# Altium schematic symbol library axleZ_dhs.SCHLIB: 21 symbols
Pins are listed as number, name and electrical type; pins without a type are passive.

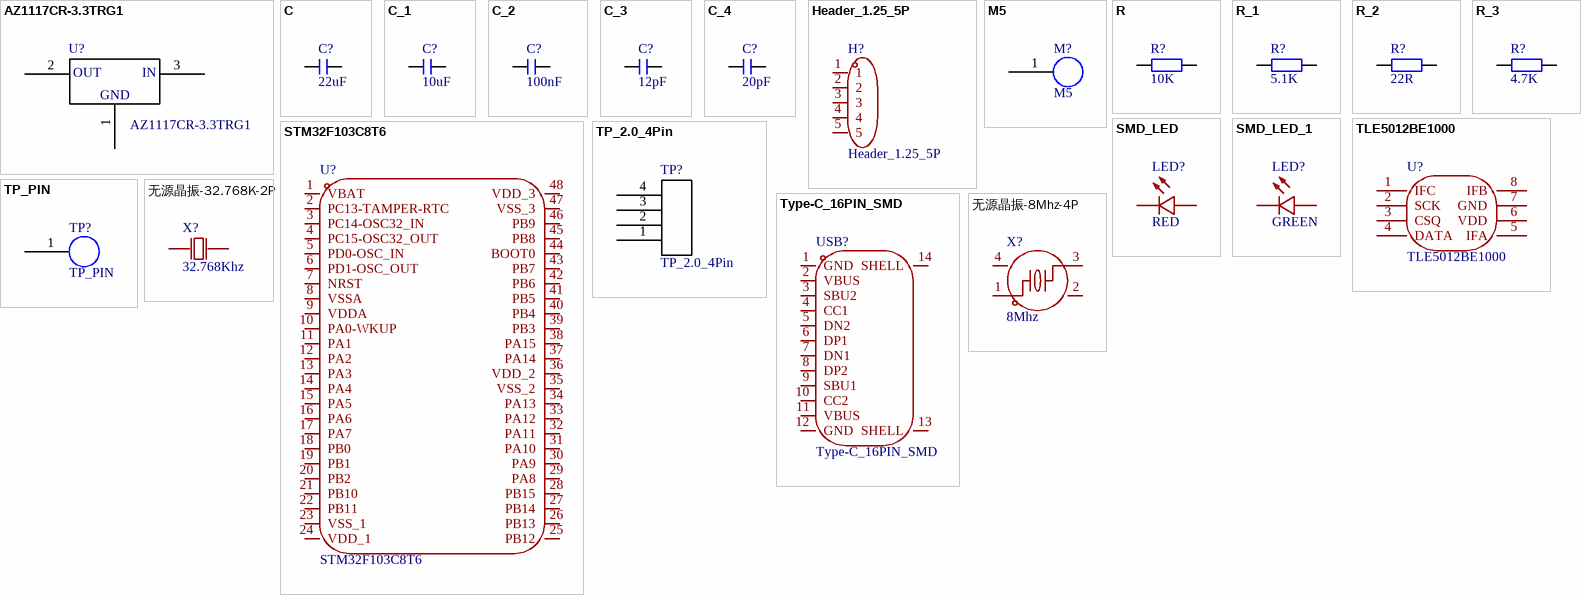
[diagram p0: symbols AZ1117CR-3.3TRG1 to 无源晶振-32.768K-2P]

## AZ1117CR-3.3TRG1
designator U?
3.3V 线性稳压器; BOM_Name: LDO
footprint SOT_89_3 (L4.5mm W2.5mm)
pins: 1, 2, 3
text: OUT; IN; GND

## C
designator C?, comment 22uF
MLCC 贴片独石电容; BOM_Name: 贴片 MCLL
footprint C_0603_l (MLCC 贴片电容)
pins: 1, 2

## C_1
designator C?, comment 10uF
MLCC 贴片独石电容; BOM_Name: 贴片 MCLL
footprint C_0603_l (MLCC 贴片电容)
pins: 1, 2

## C_2
designator C?, comment 100nF
MLCC 贴片独石电容; BOM_Name: 贴片 MCLL
footprint C_0603_l (MLCC 贴片电容)
pins: 1, 2

## C_3
designator C?, comment 12pF
MLCC 贴片独石电容; BOM_Name: 贴片 MCLL
footprint C_0603_l (MLCC 贴片电容)
pins: 1, 2

## C_4
designator C?, comment 20pF
MLCC 贴片独石电容; BOM_Name: 贴片 MCLL
footprint C_0603_l (MLCC 贴片电容)
pins: 1, 2

## Header_1.25_5P
designator H?
1.25mm 接插件; BOM_Name: 接插件
footprint PH_1.25_5P (弯插 1.25 连接器)
pins: 1, 2, 3, 4, 5

## M5
designator M?
M5 螺丝安装孔
footprint M5 (M5 螺丝孔)
pins: 1

## R
designator R?, comment 10K
贴片电阻; BOM_Name: 贴片电阻
footprint R_0603_L (贴片电阻)
pins: 1, 2

## R_1
designator R?, comment 5.1K
贴片电阻; BOM_Name: 贴片电阻
footprint R_0603_L (贴片电阻)
pins: 1, 2

## R_2
designator R?, comment 22R
贴片电阻; BOM_Name: 贴片电阻
footprint R_0603_L (贴片电阻)
pins: 1, 2

## R_3
designator R?, comment 4.7K
贴片电阻; BOM_Name: 贴片电阻
footprint R_0603_L (贴片电阻)
pins: 1, 2

## SMD_LED
designator LED?, comment RED
贴片发光二极管; BOM_Name: LED
footprint LED_0603 (贴片 发光二极管)
pins: 1 K, 2 A

## SMD_LED_1
designator LED?, comment GREEN
贴片发光二极管; BOM_Name: LED
footprint LED_0603 (贴片 发光二极管)
pins: 1 K, 2 A

## STM32F103C8T6
designator U?
footprint LQFP_48 (7mm * 7mm)
pins: 1 VBAT, 2 PC13-TAMPER-RTC, 3 PC14-OSC32_IN, 4 PC15-OSC32_OUT, 5 PD0-OSC_IN, 6 PD1-OSC_OUT, 7 NRST, 8 VSSA, 9 VDDA, 10 PA0-WKUP, 11 PA1, 12 PA2, 13 PA3, 14 PA4, 15 PA5, 16 PA6, 17 PA7, 18 PB0, 19 PB1, 20 PB2, 21 PB10, 22 PB11, 23 VSS_1, 24 VDD_1, 25 PB12, 26 PB13, 27 PB14, 28 PB15, 29 PA8, 30 PA9, 31 PA10, 32 PA11, 33 PA12, 34 PA13, 35 VSS_2, 36 VDD_2, 37 PA14, 38 PA15, 39 PB3, 40 PB4, 41 PB5, 42 PB6, 43 PB7, 44 BOOT0, 45 PB8, 46 PB9, 47 VSS_3, 48 VDD_3

## TLE5012BE1000
designator U?
采用巨磁电阻的角度传感器; BOM_Name: 角度传感器
footprint SO-8 (L5.0mm W4.0mm)
pins: 1 IFC, 2 SCK, 3 CSQ, 4 DATA, 5 IFA, 6 VDD, 7 GND, 8 IFB

## TP_2.0_4Pin
designator TP?
2.0mm 间距调试点
footprint TP_2.0_4PIN_HOLE (4pin 2.0mm 间距测试点 通孔)
pins: 1, 2, 3, 4

## TP_PIN
designator TP?
单点测试点
footprint TP_PIN_1.2 (单点测试点)
footprint TP_PIN_2.4 (单点测试点)
pins: 1

## Type-C_16PIN_SMD
designator USB?
16Pin 卧贴 Type-C USB 连接器; BOM_Name: Type-C 连接器
footprint Type-C_16PIN_SMD (Type-C 卧贴)
pins: 1 GND, 2 VBUS, 3 SBU2, 4 CC1, 5 DN2, 6 DP1, 7 DN1, 8 DP2, 9 SBU1, 10 CC2, 11 VBUS, 12 GND, 13 SHELL, 14 SHELL

## 无源晶振-8Mhz-4P
designator X?, comment 8Mhz
8Mhz 四脚 无源 贴片晶振; BOM_Name: 贴片晶振
footprint SMD_L3.2_W2.5_4P
pins: 1, 2 GND, 3, 4 GND

## 无源晶振-32.768K-2P
designator X?, comment 32.768Khz
32.768Khz 两脚 无源 贴片晶振; BOM_Name: 贴片晶振
footprint SMD_L3.2_W1.5_2P
pins: 1 OSC1, 2 OSC2